# EAGLE library part 693063020911 (library WR-CRD)
WR-CRD SD Card Connectors Characteristics Available in two form factors: SD and MicroSD Available in three entry types: Push-Pull, Hinge and Push-Push SD 4.0 available in SD form factor for higher transfer speed Applications Single-board computers Surveillance systems Industrial data logging Consumer Electronics Drones <https://www.we-online.com/components/media/o32845v209%20Family_ConCRD_693071010811.jpg> Details see: www.we-online.com/components/products/WR-CRD_CARD_CONNECTORS_SD2 <www.we-online.com/catalog/WR-CRD_CARD_CONNECTORS_SD2/?utm_source=eagle_model&utm_medium=description_link&utm_campaign=eisos_eagle> Updated by Ella 2024-11-14 2024 (C) Würth Elektronik
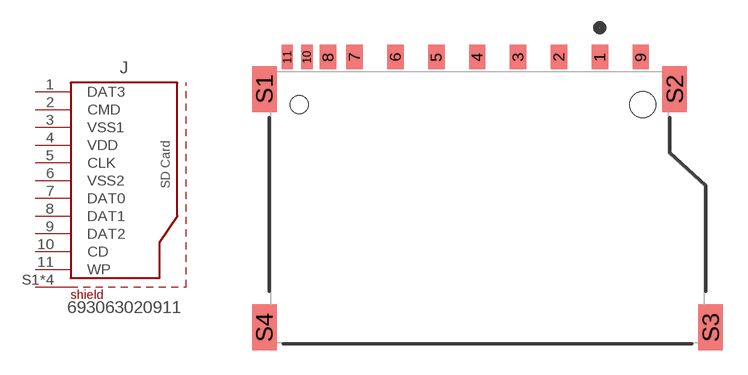
[diagram p18: symbol with the pads of 693063020911; footprint 693063020911]

Designator prefix J

## 693063020911 (DATASHEET-URL: https://www.we-online.com/redexpert/spec/693063020911?ae; DURABILITY: 10000 Mating cycles; GERDER: Socket; MOUNT: SMT; PART-NUMBER: 693063020911; PINS: 11pcs; SIZE: SD; TYPE: Push & Pull; VALUE: 693063020911)  [693063020911]
1  DAT3  pas
2  CMD  pas
3  VSS1  pas
4  VDD  pas
5  CLK  pas
6  VSS2  pas
7  DAT0  pas
8  DAT1  pas
9  DAT2  pas
10  CD  pas
11  WP  pas
S1  SHIELD  pas
S2  SHIELD  pas
S3  SHIELD  pas
S4  SHIELD  pas

## Footprint 693063020911 (pad centres in mm)
WR-CRD SD Card Connector Push & Pull Short Type with Card Detection 9 pins
smd 1 x 1.5: 1 6.875,9.2; 2 4.375,9.2; 3 1.875,9.2; 4 -0.625,9.2; 5 -3.125,9.2; 6 -5.625,9.2; 7 -8.126,9.2; 8 -9.745,9.2; 9 9.375,9.2
smd 0.7 x 1.5: 10 -11.045,9.2; 11 -12.245,9.2
smd 1.5 x 2.8: S1 -13.65,7.25; S2 11.45,7.25; S3 13.65,-7.35; S4 -13.65,-7.35
hole 1.1 at -11.5,6.3
hole 1.6 at 9.5,6.3